# Altium footprint library discrete.PcbLib: 24 footprints (part 2 of 2)
Each footprint in its own frame and in the unit in brackets; x right, y up, seen from the top. Pads: shape width x height; smd on the part's side, far side on the other; paste and mask are expansions set on the pad; w line width, h text height; cw(c..) or ccw(c..) is an arc to the next point about the centre after c.
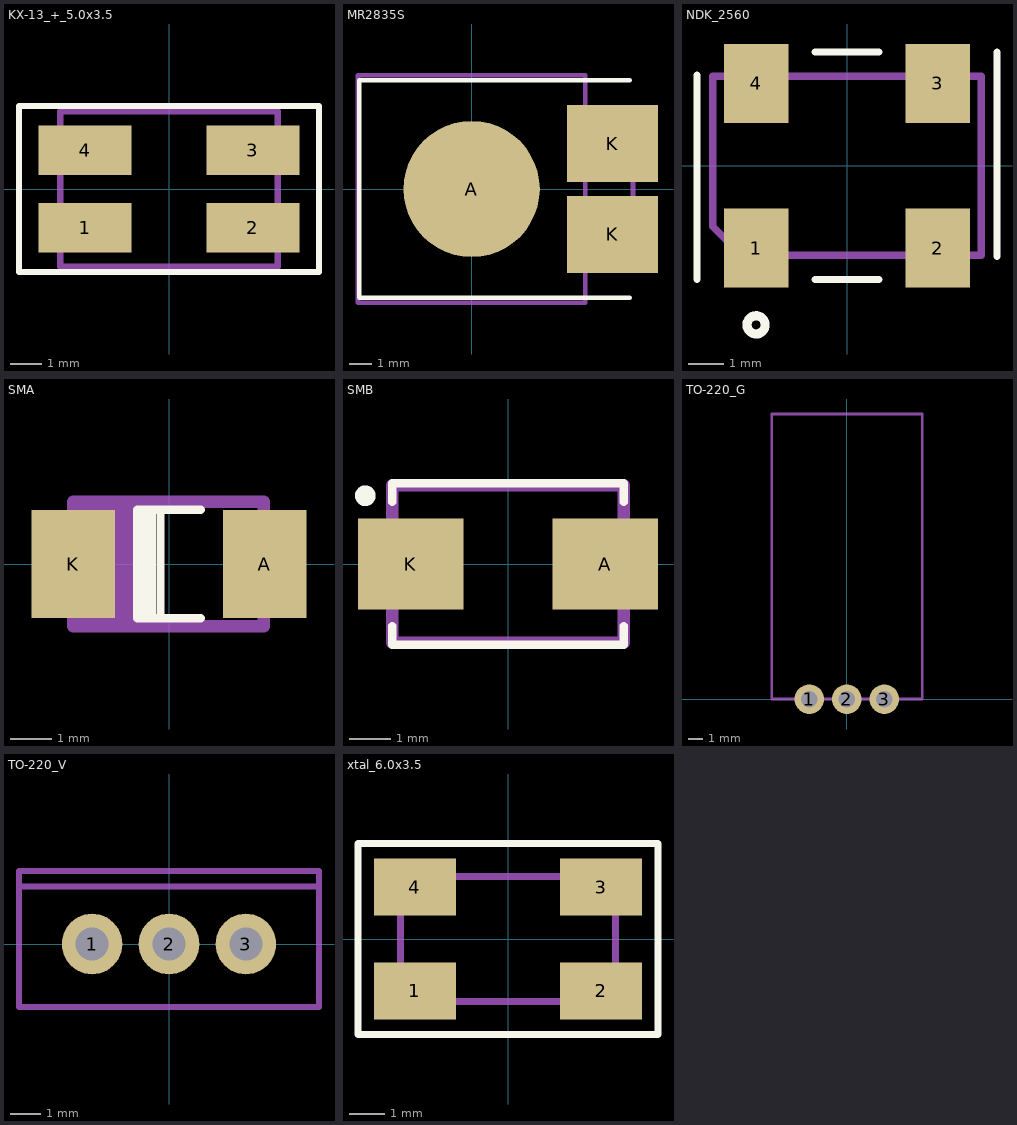
[diagram p1: the footprints below, top view; thin cyan lines are the x and y axes]

## KX-13_+_5.0x3.5 [mm]
pads (4):
  rect 3x1.6 smd: 1(-2.7,-1.25) 2(2.7,-1.25) 3(2.7,1.25) 4(-2.7,1.25)
Top Overlay:
  lines w0.2: -4.826,-2.667 4.826,-2.667 4.826,2.667 -4.826,2.667 -4.826,-2.667
Mechanical 13:
  lines w0.2: -3.5,-2.5 3.5,-2.5 3.5,2.5 -3.5,2.5 -3.5,-2.5
  text ".Designator" at -2.667,2.921 h1.52
3D body: height 1.3, standoff 0, extent -3.571,-2.5 3.429,2.5

## MR2835S [mm]
pads (3):
  round 6 smd: A(0,0)
  rect 4x3.4 smd: K(6.2,-2) K(6.2,2)
Top Overlay:
  lines w0.2: 6.96,-4.775 6.426,-4.775 -4.953,-4.775 -4.953,0 -4.953,4.775 6.426,4.775 6.96,4.775
Mechanical 13:
  lines w0.2: 5,-4.318 5,-4.216 ; 5,-3.4 7.1,-3.4 7.1,3.4 5,3.4 ; -5,-5 -5,5 5,5 5,-5 -5,-5
  text ".Designator" at -2.235,6.02 h1.52
3D body: height 5.7, standoff 0, extent -4.775,-4.65 6.775,4.65

## NDK_2560 [mm] "Crystal Clock Oscillator"
pads (4):
  rect 1.8x2.2 smd: 1(-2.54,-2.3) 2(2.54,-2.3) 3(2.54,2.3) 4(-2.54,2.3)
Top Overlay:
  circle w0.254: c-2.54,-4.445 r0.254
  lines w0.2: -4.191,-3.175 -4.191,2.54 ; -0.889,-3.175 0.889,-3.175 ; -0.889,3.175 0.889,3.175 ; 4.191,-2.54 4.191,3.175
Mechanical 13:
  lines w0.2: -3.75,-1.696 -2.946,-2.5 3.75,-2.5 3.75,2.5 -3.75,2.5 -3.75,-1.696
  text ".Designator" at -1.651,-0.762 h2.5
3D body: height 1.3, standoff 0, extent -3.749,-2.499 3.749,2.499

## SMA [mm]
pads (2):
  rect 2x2.6 smd: A(2.3,0) K(-2.3,0)
Top Overlay:
  lines w0.2: -0.584,-1.3 -0.584,1.3 ; -0.406,-1.3 -0.406,1.3 ; -0.203,-1.3 -0.203,1.3 ; 0.762,-1.3 -0.762,-1.3 -0.762,1.3 0.762,1.3
Mechanical 13:
  lines w0.3: -2.007,-1.5 -2.007,1.5 ; -1.753,-1.5 -1.753,1.5 ; -1.473,-1.5 -1.473,1.5 ; -1.194,-1.5 -1.194,1.5 ; -0.914,-1.5 -0.914,1.5 ; -2.3,-1.5 2.272,-1.5 2.272,1.5 -2.3,1.5 -2.3,-1.5
  text ".Designator" at -1.03,-0.381 h1.52
  text "+" at -4.586,-0.762 h2.5
3D body: height 2.4, standoff 0, extent -2.66,-1.3 2.54,1.3

## SMB [mm] "Molded Capacitor, 2-Leads, Body 5,4x3,6mm, IPC Low Density"
height 4.57
pads (2):
  rect 2.55x2.2 smd: A(2.35,0) K(-2.35,0)
Top Overlay:
  circle w0.25: c-3.45,1.65 r0.125
  lines w0.2: -2.8,-1.5 -2.8,-1.95 2.8,-1.95 2.8,-1.5 ; -2.8,1.5 -2.8,1.95 2.8,1.95 2.8,1.5
Mechanical 13:
  lines w0.3: -2.795,-1.905 -2.795,1.905 2.795,1.905 2.795,-1.905 -2.795,-1.905
  text ".Designator" at -0.635,-0.381 h1.52
  text "K" at -5.08,-0.762 h2.5
3D body: height 2.3, standoff 0, extent -2.7,-1.778 2.7,1.822

## TO-220_G [mm]
pads (3):
  round 2 hole 1.1 unplated: 1(-2.54,0) 2(0,0) 3(2.54,0)
Mechanical 13:
  lines w0.2: -5.08,0.025 -5.08,19.304 5.105,19.304 5.105,0.025 -5.08,0.025
  text ".Designator" at -3.785,2.794 h2.5
3D body: height 4.45, standoff -1.79, extent -5.08,0 5.08,19.28

## TO-220_V [mm]
pads (3):
  round 2 hole 1.1 unplated: 1(-2.54,0) 2(0,0) 3(2.54,0)
Mechanical 13:
  lines w0.2: -4.953,1.905 4.953,1.905 ; -4.953,-2.083 4.953,-2.083 4.953,2.413 -4.953,2.413 -4.953,-2.083
  text ".Designator" at -3.785,2.794 h2.5
3D body: height 18.8, standoff -3.9, extent -4.95,-2.083 4.95,2.417

## xtal_6.0x3.5 [mm]
pads (4):
  rect 2.3x1.6 smd: 1(-2.6,-1.45) 2(2.6,-1.45) 3(2.6,1.45) 4(-2.6,1.45)
Top Overlay:
  lines w0.2: -4.191,-2.667 -4.191,2.667 4.191,2.667 4.191,-2.667 -4.191,-2.667
Mechanical 13:
  lines w0.2: -3,-1.75 3,-1.75 3,1.75 -3,1.75 -3,-1.75
  text ".Designator" at -1.016,-0.762 h2.5
3D body: height 1.3, standoff 0, extent -2.999,-1.749 2.999,1.749